# EAGLE library part N64_EDGE (library SummerCart64)
Nintendo 64 cartridge edge connector.
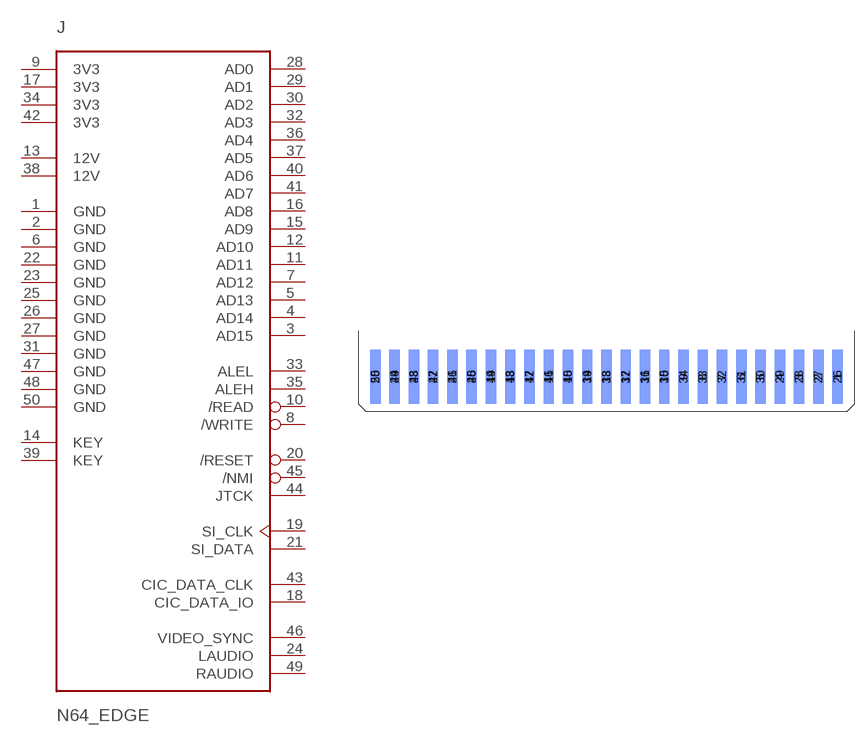
[diagram p1: symbol with the pads of N64_EDGE; footprint N64_EDGE]

Designator prefix J

## N64_EDGE  [N64_EDGE]
1  GND  pwr
2  GND  pwr
3  AD15
4  AD14
5  AD13
6  GND  pwr
7  AD12
8  /WRITE  out
9  3V3  pwr
10  /READ  out
11  AD11
12  AD10
13  12V  pwr
14  KEY  nc
15  AD9
16  AD8
17  3V3  pwr
18  CIC_DATA_IO
19  SI_CLK  out
20  /RESET  out
21  SI_DATA
22  GND  pwr
23  GND  pwr
24  LAUDIO  in
25  GND  pwr
26  GND  pwr
27  GND  pwr
28  AD0
29  AD1
30  AD2
31  GND  pwr
32  AD3
33  ALEL  out
34  3V3  pwr
35  ALEH  out
36  AD4
37  AD5
38  12V  pwr
39  KEY  nc
40  AD6
41  AD7
42  3V3  pwr
43  CIC_DATA_CLK  out
44  JTCK  in
45  /NMI  out
46  VIDEO_SYNC  out
47  GND  pwr
48  GND  pwr
49  RAUDIO  in
50  GND  pwr

## Footprint N64_EDGE (pad centres in mm)
Footprint for Nintendo 64 cartridge edge connector.
smd 1.5 x 7 bottom: 1 30,-6; 2 27.5,-6; 3 25,-6; 4 22.5,-6; 5 20,-6; 6 17.5,-6; 7 15,-6; 8 12.5,-6; 9 10,-6; 10 7.5,-6; 11 5,-6; 12 2.5,-6; 13 0,-6; 14 -2.5,-6; 15 -5,-6; 16 -7.5,-6; 17 -10,-6; 18 -12.5,-6; 19 -15,-6; 20 -17.5,-6; 21 -20,-6; 22 -22.5,-6; 23 -25,-6; 24 -27.5,-6; 25 -30,-6
smd 1.5 x 7: 26 30,-6; 27 27.5,-6; 28 25,-6; 29 22.5,-6; 30 20,-6; 31 17.5,-6; 32 15,-6; 33 12.5,-6; 34 10,-6; 35 7.5,-6; 36 5,-6; 37 2.5,-6; 38 0,-6; 39 -2.5,-6; 40 -5,-6; 41 -7.5,-6; 42 -10,-6; 43 -12.5,-6; 44 -15,-6; 45 -17.5,-6; 46 -20,-6; 47 -22.5,-6; 48 -25,-6; 49 -27.5,-6; 50 -30,-6